# Altium schematic symbol library kmilo17pet-TI_LDO_0_350.SchLib: 1649 symbols (part 14 of 66)
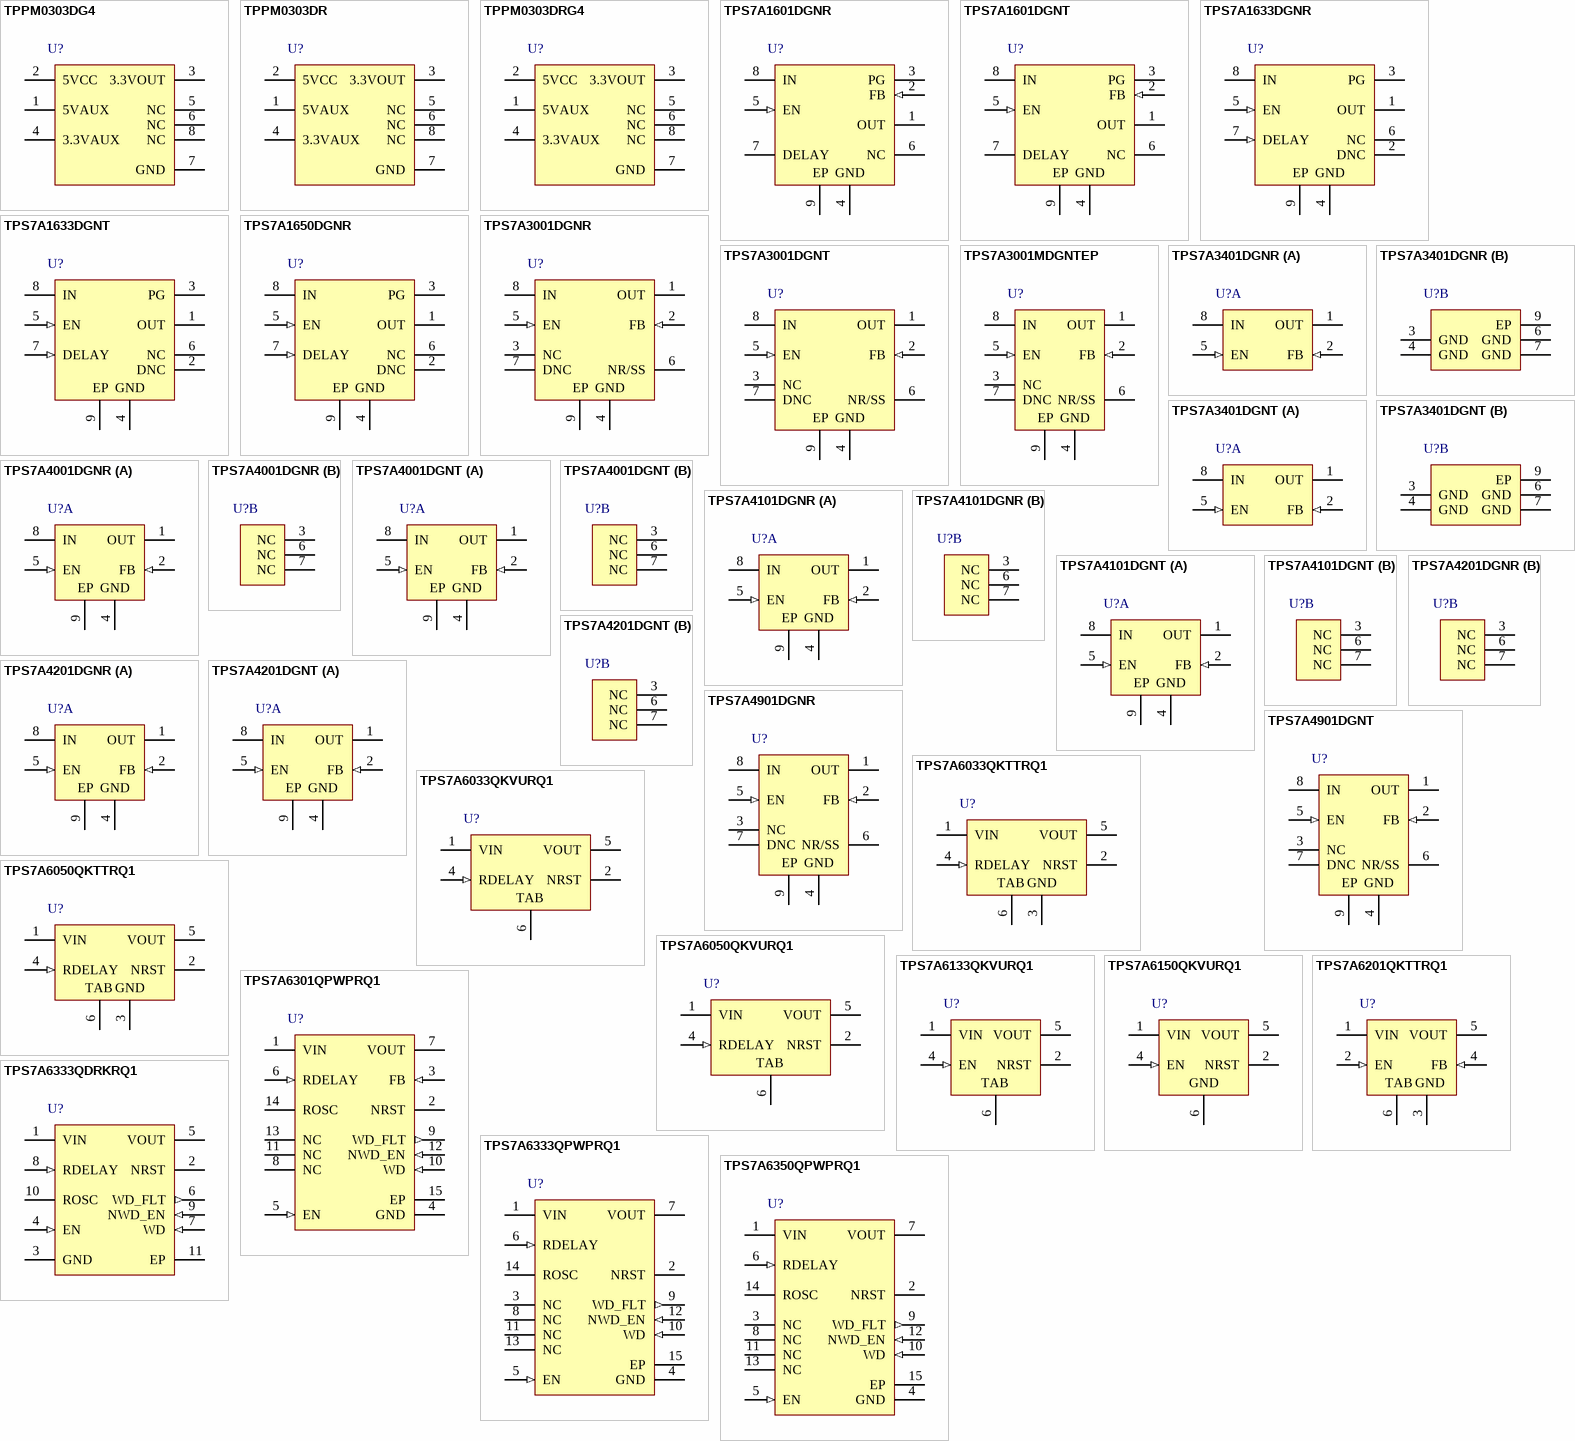
[diagram p55: symbols TPPM0303DG4 to TPS7A6350QPWPRQ1]

## TPS7A6333QPWPRQ1
designator U?
Single Output Automotive LDO, 200 mA, Fixed 3.3 V Output, 4 to 40 V Input, with Ultra-Low IQ, 14-pin HTSSOP (PWP), -40 to 125 degC, Green (RoHS & no Sb/Br); Manufacturer: Texas Instruments; PartNumber: TPS7A6333QPWPRQ1; Accuracy(%): 2; Fixed Output Options(V): 3.3; Iout(Max)(A): 0.2; Iq(Typ)(mA): 0.02; Power Good: TRUE; SubFamily: Single Channel LDO; Vdo(Typ)(mV): 300; Vin(Max)(V): 40; Vin(Min)(V): 4; DatasheetVersion: SLVSAB1D; PackageVersion: 4073225-2/I; PackageReference: PWP14-1830X2055TP; PackageDescription: 14-Pin Plastic Small Outline, Body 5 x 4.4 mm, Pitch 0.65 mm; Supplier 1: Digi-Key; Supplier Part Number 1: 296-30097-2-ND; Supplier 2: Digi-Key; Supplier Part Number 2: 296-30097-1-ND; Supplier 3: Digi-Key; Supplier Part Number 3: 296-30097-6-ND; Supplier 4: Mouser; Supplier Part Number 4: 595-TPS7A6333QPWPRQ1; Eco-Plan: Green (RoHS & no Sb/Br); Vout Adj(Max)(V): 3.3; Vout Adj(Min)(V): 3.3; Mounting Technology: Surface Mount; Code_JEDEC: MO-153; ComponentLink1Description: Manufacturer URL; ComponentLink1URL: http://www.ti.com/; ComponentLink2Description: Datasheet; ComponentLink2URL: http://www.ti.com/general/docs/lit/getliterature.tsp?genericPartNumber=TPS7A6333-Q1&fileType=pdf; ComponentLink3Description: Package Specification; ComponentLink3URL: http://www.ti.com/litv/pdf/mpds373
footprint TI-PWP14-1830X2055TP_N (SOP, 14-Leads, Body 5x4.4mm, Pitch 0.65mm, Thermal Pad 1.830X2.055mm, IPC Medium Density)
footprint TI-PWP14-1830X2055TP_L (SOP, 14-Leads, Body 5x4.4mm, Pitch 0.65mm, Thermal Pad 1.830X2.055mm, IPC High Density)
footprint TI-PWP14-1830X2055TP_M (SOP, 14-Leads, Body 5x4.4mm, Pitch 0.65mm, Thermal Pad 1.830X2.055mm, IPC Low Density)
pins: 1 VIN (power) "Input voltage pin: The unregulated input voltage is supplied to this pin. A bypass capacitor connected between the VIN pin and GND pin dampens line transients on the input.", 2 NRST (oc) "Reset pin: This is an open-drain reset output pin with an external pullup resistor connected to the VOUT pin.", 3 NC "Not connected", 4 GND (power) "Ground pin: This is signal ground pin of the IC.", 5 EN (in) "Chip enable pin: This is a high-voltage-tolerant input pin with an internal pulldown. A high input to this pin activates the device and turns the regulator ON. Connect this input to the VIN terminal for self-bias (See Datasheet)", 6 RDELAY (in) "Reset delay timer pin: This pin programs the reset delay timer using an external capacitor (CDLY) to ground.", 7 VOUT (power) "Regulated output voltage pin: This is a regulated voltage output (VOUT = 3.3 V or 5 V or a programmed value) pin with a limitation on maximum output current. For devices with adjustable output voltage (TPS7A6x01-Q1), (See Datasheet)", 8 NC "Not connected", 9 WD_FLT (out) "Watchdog fault pin (for TPS7A63xx-Q1 only): This is an active-low fault output pin with an external pullup resistor connected to the VOUT pin.", 10 WD (in) "Watchdog service pin: This is an input pin to provide a service signal to the watchdog.", 11 NC "Not connected", 12 NWD_EN (in) "Watchdog enable pin: A high input to this pin disables the watchdog, and vice versa. This is an active-low input pin with an internal pulldown. Leaving this pin is unconnected and floating keeps the watchdog enabled. An (See Datasheet)", 13 NC "Not connected", 14 ROSC "ROscillator pin: This pin programs the internal oscillator frequency (and hence the duration of the watchdog window) by connecting an external resistor to ground.", 15 EP (power) "Exposed heat sink"

## TPS7A6350QPWPRQ1
designator U?
Single Output Automotive LDO, 200 mA, Fixed 5 V Output, 4 to 40 V Input, with Ultra-Low IQ, 14-pin HTSSOP (PWP), -40 to 125 degC, Green (RoHS & no Sb/Br); Manufacturer: Texas Instruments; PartNumber: TPS7A6350QPWPRQ1; Accuracy(%): 2; Fixed Output Options(V): 5; Iout(Max)(A): 0.2; Iq(Typ)(mA): 0.02; Power Good: TRUE; SubFamily: Single Channel LDO; Vdo(Typ)(mV): 300; Vin(Max)(V): 40; Vin(Min)(V): 4; DatasheetVersion: SLVSAB1D; PackageVersion: 4073225-2/I; PackageReference: PWP14-1830X2055TP; PackageDescription: 14-Pin Plastic Small Outline, Body 5 x 4.4 mm, Pitch 0.65 mm; Supplier 1: Digi-Key; Supplier Part Number 1: 296-29708-2-ND; Supplier 2: Digi-Key; Supplier Part Number 2: 296-29708-1-ND; Supplier 3: Digi-Key; Supplier Part Number 3: 296-29708-6-ND; Supplier 4: Mouser; Supplier Part Number 4: 595-TPS7A6350QPWPRQ1; Eco-Plan: Green (RoHS & no Sb/Br); Vout Adj(Max)(V): 5; Vout Adj(Min)(V): 5; Mounting Technology: Surface Mount; Code_JEDEC: MO-153; ComponentLink1Description: Manufacturer URL; ComponentLink1URL: http://www.ti.com/; ComponentLink2Description: Datasheet; ComponentLink2URL: http://www.ti.com/general/docs/lit/getliterature.tsp?genericPartNumber=TPS7A6350-Q1&fileType=pdf; ComponentLink3Description: Package Specification; ComponentLink3URL: http://www.ti.com/litv/pdf/mpds373
footprint TI-PWP14-1830X2055TP_N (SOP, 14-Leads, Body 5x4.4mm, Pitch 0.65mm, Thermal Pad 1.830X2.055mm, IPC Medium Density)
footprint TI-PWP14-1830X2055TP_L (SOP, 14-Leads, Body 5x4.4mm, Pitch 0.65mm, Thermal Pad 1.830X2.055mm, IPC High Density)
footprint TI-PWP14-1830X2055TP_M (SOP, 14-Leads, Body 5x4.4mm, Pitch 0.65mm, Thermal Pad 1.830X2.055mm, IPC Low Density)
pins: 1 VIN (power) "Input voltage pin: The unregulated input voltage is supplied to this pin. A bypass capacitor connected between the VIN pin and GND pin dampens line transients on the input.", 2 NRST (oc) "Reset pin: This is an open-drain reset output pin with an external pullup resistor connected to the VOUT pin.", 3 NC "Not connected", 4 GND (power) "Ground pin: This is signal ground pin of the IC.", 5 EN (in) "Chip enable pin: This is a high-voltage-tolerant input pin with an internal pulldown. A high input to this pin activates the device and turns the regulator ON. Connect this input to the VIN terminal for self-bias (See Datasheet)", 6 RDELAY (in) "Reset delay timer pin: This pin programs the reset delay timer using an external capacitor (CDLY) to ground.", 7 VOUT (power) "Regulated output voltage pin: This is a regulated voltage output (VOUT = 3.3 V or 5 V or a programmed value) pin with a limitation on maximum output current. For devices with adjustable output voltage (TPS7A6x01-Q1), (See Datasheet)", 8 NC "Not connected", 9 WD_FLT (out) "Watchdog fault pin (for TPS7A63xx-Q1 only): This is an active-low fault output pin with an external pullup resistor connected to the VOUT pin.", 10 WD (in) "Watchdog service pin: This is an input pin to provide a service signal to the watchdog.", 11 NC "Not connected", 12 NWD_EN (in) "Watchdog enable pin: A high input to this pin disables the watchdog, and vice versa. This is an active-low input pin with an internal pulldown. Leaving this pin is unconnected and floating keeps the watchdog enabled. An (See Datasheet)", 13 NC "Not connected", 14 ROSC "ROscillator pin: This pin programs the internal oscillator frequency (and hence the duration of the watchdog window) by connecting an external resistor to ground.", 15 EP (power) "Exposed heat sink"

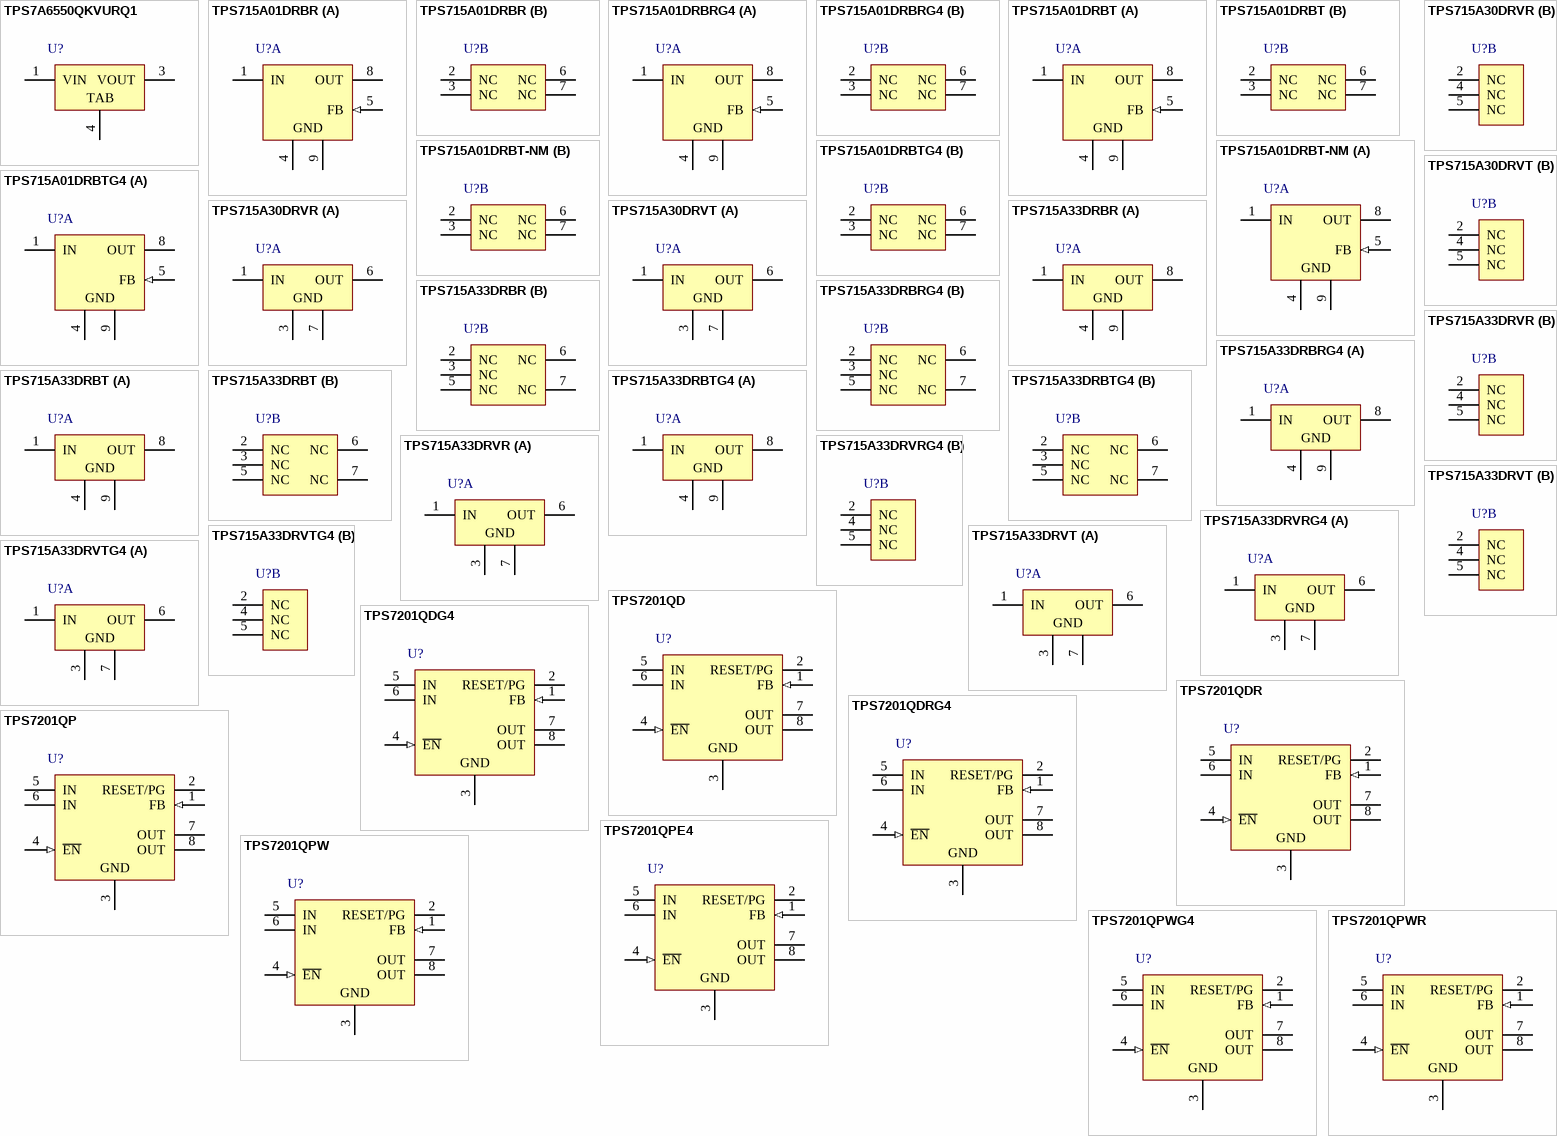
[diagram p9: symbols TPS7A6550QKVURQ1 to TPS7201QPWR]

## TPS7A6550QKVURQ1
designator U?
Single Output Automotive LDO, 300 mA, Fixed 5 V Output, 4 to 40 V Input, 3-pin PFM (KVU), -40 to 125 degC, Green (RoHS & no Sb/Br); Manufacturer: Texas Instruments; PartNumber: TPS7A6550QKVURQ1; Accuracy(%): 2; Fixed Output Options(V): 5; Iout(Max)(A): 0.3; Iq(Typ)(mA): 0.02; SubFamily: Single Channel LDO; Vdo(Typ)(mV): 300; Vin(Max)(V): 40; Vin(Min)(V): 4; DatasheetVersion: SLVSA98C; PackageVersion: 4205521-2/D; PackageReference: KVU3; PackageDescription: 3-Pin Plastic Flange Mount, Body 6.1 x 6.6 mm, Pitch 2.29 mm; Supplier 1: Digi-Key; Supplier Part Number 1: 296-28461-2-ND; Supplier 2: Digi-Key; Supplier Part Number 2: 296-28461-1-ND; Supplier 3: Digi-Key; Supplier Part Number 3: 296-28461-6-ND; Supplier 4: Newark; Supplier Part Number 4: 40T5460; Supplier 5: Mouser; Supplier Part Number 5: 595-TPS7A6550QKVURQ1; Eco-Plan: Green (RoHS & no Sb/Br); Vout Adj(Max)(V): 5; Vout Adj(Min)(V): 5; Mounting Technology: Surface Mount; Code_JEDEC: TO-252; ComponentLink1Description: Manufacturer URL; ComponentLink1URL: http://www.ti.com/; ComponentLink2Description: Datasheet; ComponentLink2URL: http://www.ti.com/general/docs/lit/getliterature.tsp?genericPartNumber=TPS7A6550-Q1&fileType=pdf; ComponentLink3Description: Package Specification; ComponentLink3URL: http://www.ti.com/litv/pdf/mpsf018c
footprint TI-KVU3_N (DPAK, 3-Leads, Body 6.6x6.1mm, Pitch 2.29mm, IPC Medium Density)
footprint TI-KVU3_L (DPAK, 3-Leads, Body 6.6x6.1mm, Pitch 2.29mm, IPC High Density)
footprint TI-KVU3_M (DPAK, 3-Leads, Body 6.6x6.1mm, Pitch 2.29mm, IPC Low Density)
pins: 1 VIN (power) "Input voltage pin: The unregulated input voltage is supplied to this pin. A bypass capacitor is connected between VIN pin and GND pin to dampen input line transients.", 3 VOUT (power) "Regulated output voltage pin: This is a regulated voltage output (VOUT= 3.3 V or 5 V, as applicable) pin with a limitation on maximum output current. In order to achieve stable operation and prevent oscillation, an external (See Datasheet)", 4 TAB (power)

## TPS715A01DRBR
designator U?
Single Output LDO, 80 mA, Adjustable 1.2 to 15 V Output, 2.5 to 24 V Input, with Low IQ, 8-pin SON (DRB), -40 to 125 degC, Green (RoHS & no Sb/Br); Manufacturer: Texas Instruments; PartNumber: TPS715A01DRBR; Accuracy(%): 4; Iout(Max)(A): 0.08; Iq(Typ)(mA): 0.003; Rating: Catalog; SubFamily: Single Channel LDO; Vdo(Typ)(mV): 670; Vin(Max)(V): 24; Vin(Min)(V): 2.5; Vout Adj(Max)(V): 15; Vout Adj(Min)(V): 1.2; DatasheetVersion: SBVS047F; PackageVersion: 4203482-2/K; PackageReference: DRB8-1750X1500TP; PackageDescription: 8-Pin Plastic Small Outline, Body 3 x 3 mm, Pitch 0.65 mm; Supplier 1: Digi-Key; Supplier Part Number 1: TPS715A01DRBR-ND; Supplier 2: Newark; Supplier Part Number 2: 73J8402; Supplier 3: Mouser; Supplier Part Number 3: 595-TPS715A01DRBR; Eco-Plan: Green (RoHS & no Sb/Br); Mounting Technology: Surface Mount; ComponentLink1Description: Manufacturer URL; ComponentLink1URL: http://www.ti.com/; ComponentLink2Description: Datasheet; ComponentLink2URL: http://www.ti.com/general/docs/lit/getliterature.tsp?genericPartNumber=TPS715A01&fileType=pdf; ComponentLink3Description: Package Specification; ComponentLink3URL: http://www.ti.com/litv/pdf/mpds118h; ComponentLink4Description: URL Link1; ComponentLink4URL: Samples URL:http://www.ti.com/product/tps715a01#samples
footprint TI-DRB8-1750X1500TP_V (SON, 8-Leads, Body 3x3mm, Pitch 0.65mm, Thermal Pad 1.50 x 3.8mm)
part A pins: 1 IN (power) "Unregulated input voltage.", 4 GND (power) "Ground.", 5 FB (in) "This terminal is used to set the output voltage.", 8 OUT (power) "Regulated output voltage, any output capacitor >= 0.47uF can be used for stability.", 9 GND (power) "Ground."
part B pins: 2 NC "No connection. May be left open or tied to Ground for improved thermal performance.", 3 NC "No connection. May be left open or tied to Ground for improved thermal performance.", 6 NC "No connection. May be left open or tied to Ground for improved thermal performance.", 7 NC "No connection. May be left open or tied to Ground for improved thermal performance."

## TPS715A01DRBRG4
designator U?
Single Output LDO, 80 mA, Adjustable 1.2 to 15 V Output, 2.5 to 24 V Input, with Low IQ, 8-pin SON (DRB), -40 to 125 degC, Green (RoHS & no Sb/Br); Manufacturer: Texas Instruments; PartNumber: TPS715A01DRBRG4; Accuracy(%): 4; Iout(Max)(A): 0.08; Iq(Typ)(mA): 0.003; Rating: Catalog; SubFamily: Single Channel LDO; Vdo(Typ)(mV): 670; Vin(Max)(V): 24; Vin(Min)(V): 2.5; Vout Adj(Max)(V): 15; Vout Adj(Min)(V): 1.2; DatasheetVersion: SBVS047F; PackageVersion: 4203482-2/K; PackageReference: DRB8-1750X1500TP; PackageDescription: 8-Pin Plastic Small Outline, Body 3 x 3 mm, Pitch 0.65 mm; Supplier 1: Digi-Key; Supplier Part Number 1: TPS715A01DRBRG4-ND; Supplier 2: Mouser; Supplier Part Number 2: 595-TPS715A01DRBRG4; Eco-Plan: Green (RoHS & no Sb/Br); Mounting Technology: Surface Mount; ComponentLink1Description: Manufacturer URL; ComponentLink1URL: http://www.ti.com/; ComponentLink2Description: Datasheet; ComponentLink2URL: http://www.ti.com/general/docs/lit/getliterature.tsp?genericPartNumber=TPS715A01&fileType=pdf; ComponentLink3Description: Package Specification; ComponentLink3URL: http://www.ti.com/litv/pdf/mpds118h; ComponentLink4Description: URL Link1; ComponentLink4URL: Samples URL:http://www.ti.com/product/tps715a01#samples
footprint TI-DRB8-1750X1500TP_V (SON, 8-Leads, Body 3x3mm, Pitch 0.65mm, Thermal Pad 1.50 x 3.8mm)
part A pins: 1 IN (power) "Unregulated input voltage.", 4 GND (power) "Ground.", 5 FB (in) "This terminal is used to set the output voltage.", 8 OUT (power) "Regulated output voltage, any output capacitor >= 0.47uF can be used for stability.", 9 GND (power) "Ground."
part B pins: 2 NC "No connection. May be left open or tied to Ground for improved thermal performance.", 3 NC "No connection. May be left open or tied to Ground for improved thermal performance.", 6 NC "No connection. May be left open or tied to Ground for improved thermal performance.", 7 NC "No connection. May be left open or tied to Ground for improved thermal performance."

## TPS715A01DRBT
designator U?
Single Output LDO, 80 mA, Adjustable 1.2 to 15 V Output, 2.5 to 24 V Input, with Low IQ, 8-pin SON (DRB), -40 to 125 degC, Green (RoHS & no Sb/Br); Manufacturer: Texas Instruments; PartNumber: TPS715A01DRBT; Accuracy(%): 4; Iout(Max)(A): 0.08; Iq(Typ)(mA): 0.003; Rating: Catalog; SubFamily: Single Channel LDO; Vdo(Typ)(mV): 670; Vin(Max)(V): 24; Vin(Min)(V): 2.5; Vout Adj(Max)(V): 15; Vout Adj(Min)(V): 1.2; DatasheetVersion: SBVS047F; PackageVersion: 4203482-2/K; PackageReference: DRB8-1750X1500TP; PackageDescription: 8-Pin Plastic Small Outline, Body 3 x 3 mm, Pitch 0.65 mm; Supplier 1: Digi-Key; Supplier Part Number 1: 296-17614-2-ND; Supplier 2: Digi-Key; Supplier Part Number 2: 296-17614-1-ND; Supplier 3: Digi-Key; Supplier Part Number 3: 296-17614-6-ND; Supplier 4: Farnell; Supplier Part Number 4: 1135384; Supplier 5: Farnell; Supplier Part Number 5: 1135384RL; Supplier 6: Newark; Supplier Part Number 6: 73J8403; Supplier 7: Mouser; Supplier Part Number 7: 595-TPS715A01DRBT; Eco-Plan: Green (RoHS & no Sb/Br); Mounting Technology: Surface Mount; ComponentLink1Description: Manufacturer URL; ComponentLink1URL: http://www.ti.com/; ComponentLink2Description: Datasheet; ComponentLink2URL: http://www.ti.com/general/docs/lit/getliterature.tsp?genericPartNumber=TPS715A01&fileType=pdf; ComponentLink3Description: Package Specification; ComponentLink3URL: http://www.ti.com/litv/pdf/mpds118h; ComponentLink4Description: URL Link1; ComponentLink4URL: Samples URL:http://www.ti.com/product/tps715a01#samples
footprint TI-DRB8-1750X1500TP_V (SON, 8-Leads, Body 3x3mm, Pitch 0.65mm, Thermal Pad 1.50 x 3.8mm)
part A pins: 1 IN (power) "Unregulated input voltage.", 4 GND (power) "Ground.", 5 FB (in) "This terminal is used to set the output voltage.", 8 OUT (power) "Regulated output voltage, any output capacitor >= 0.47uF can be used for stability.", 9 GND (power) "Ground."
part B pins: 2 NC "No connection. May be left open or tied to Ground for improved thermal performance.", 3 NC "No connection. May be left open or tied to Ground for improved thermal performance.", 6 NC "No connection. May be left open or tied to Ground for improved thermal performance.", 7 NC "No connection. May be left open or tied to Ground for improved thermal performance."

## TPS715A01DRBT-NM
designator U?
Single Output LDO, 80 mA, Adjustable 1.2 to 15 V Output, 2.5 to 24 V Input, with Low IQ, 8-pin SON (DRB), -40 to 125 degC, Green (RoHS & no Sb/Br); Manufacturer: Texas Instruments; PartNumber: TPS715A01DRBT-NM; Accuracy(%): 4; Iout(Max)(A): 0.08; Iq(Typ)(mA): 0.003; Rating: Catalog; SubFamily: Single Channel LDO; Vdo(Typ)(mV): 670; Vin(Max)(V): 24; Vin(Min)(V): 2.5; Vout Adj(Max)(V): 15; Vout Adj(Min)(V): 1.2; DatasheetVersion: SBVS047F; PackageVersion: 4203482-2/K; PackageReference: DRB8-1750X1500TP; PackageDescription: 8-Pin Plastic Small Outline, Body 3 x 3 mm, Pitch 0.65 mm; Supplier 1: Digi-Key; Supplier Part Number 1: 296-29498-2-ND; Supplier 2: Digi-Key; Supplier Part Number 2: 296-29498-1-ND; Supplier 3: Digi-Key; Supplier Part Number 3: 296-29498-6-ND; Supplier 4: Farnell; Supplier Part Number 4: 2064244; Supplier 5: Mouser; Supplier Part Number 5: 595-TPS715A01DRBT-NM; Eco-Plan: Green (RoHS & no Sb/Br); Mounting Technology: Surface Mount; ComponentLink1Description: Manufacturer URL; ComponentLink1URL: http://www.ti.com/; ComponentLink2Description: Datasheet; ComponentLink2URL: http://www.ti.com/general/docs/lit/getliterature.tsp?genericPartNumber=TPS715A01&fileType=pdf; ComponentLink3Description: Package Specification; ComponentLink3URL: http://www.ti.com/litv/pdf/mpds118h; ComponentLink4Description: URL Link1; ComponentLink4URL: Samples URL:http://www.ti.com/product/tps715a01#samples
footprint TI-DRB8-1750X1500TP_V (SON, 8-Leads, Body 3x3mm, Pitch 0.65mm, Thermal Pad 1.50 x 3.8mm)
part A pins: 1 IN (power) "Unregulated input voltage.", 4 GND (power) "Ground.", 5 FB (in) "This terminal is used to set the output voltage.", 8 OUT (power) "Regulated output voltage, any output capacitor >= 0.47uF can be used for stability.", 9 GND (power) "Ground."
part B pins: 2 NC "No connection. May be left open or tied to Ground for improved thermal performance.", 3 NC "No connection. May be left open or tied to Ground for improved thermal performance.", 6 NC "No connection. May be left open or tied to Ground for improved thermal performance.", 7 NC "No connection. May be left open or tied to Ground for improved thermal performance."

## TPS715A01DRBTG4
designator U?
Single Output LDO, 80 mA, Adjustable 1.2 to 15 V Output, 2.5 to 24 V Input, with Low IQ, 8-pin SON (DRB), -40 to 125 degC, Green (RoHS & no Sb/Br); Manufacturer: Texas Instruments; PartNumber: TPS715A01DRBTG4; Accuracy(%): 4; Iout(Max)(A): 0.08; Iq(Typ)(mA): 0.003; Rating: Catalog; SubFamily: Single Channel LDO; Vdo(Typ)(mV): 670; Vin(Max)(V): 24; Vin(Min)(V): 2.5; Vout Adj(Max)(V): 15; Vout Adj(Min)(V): 1.2; DatasheetVersion: SBVS047F; PackageVersion: 4203482-2/K; PackageReference: DRB8-1750X1500TP; PackageDescription: 8-Pin Plastic Small Outline, Body 3 x 3 mm, Pitch 0.65 mm; Supplier 1: Digi-Key; Supplier Part Number 1: TPS715A01DRBTG4-ND; Supplier 2: Newark; Supplier Part Number 2: 33K7682; Supplier 3: Mouser; Supplier Part Number 3: 595-TPS715A01DRBTG4; Eco-Plan: Green (RoHS & no Sb/Br); Mounting Technology: Surface Mount; ComponentLink1Description: Manufacturer URL; ComponentLink1URL: http://www.ti.com/; ComponentLink2Description: Datasheet; ComponentLink2URL: http://www.ti.com/general/docs/lit/getliterature.tsp?genericPartNumber=TPS715A01&fileType=pdf; ComponentLink3Description: Package Specification; ComponentLink3URL: http://www.ti.com/litv/pdf/mpds118h; ComponentLink4Description: URL Link1; ComponentLink4URL: Samples URL:http://www.ti.com/product/tps715a01#samples
footprint TI-DRB8-1750X1500TP_V (SON, 8-Leads, Body 3x3mm, Pitch 0.65mm, Thermal Pad 1.50 x 3.8mm)
part A pins: 1 IN (power) "Unregulated input voltage.", 4 GND (power) "Ground.", 5 FB (in) "This terminal is used to set the output voltage.", 8 OUT (power) "Regulated output voltage, any output capacitor >= 0.47uF can be used for stability.", 9 GND (power) "Ground."
part B pins: 2 NC "No connection. May be left open or tied to Ground for improved thermal performance.", 3 NC "No connection. May be left open or tied to Ground for improved thermal performance.", 6 NC "No connection. May be left open or tied to Ground for improved thermal performance.", 7 NC "No connection. May be left open or tied to Ground for improved thermal performance."

## TPS715A30DRVR
designator U?
Single Output High Input-Voltage LDO, 80 mA, Fixed 3 V Output, 2.5 to 24 V Input, 6-pin SON (DRV), -40 to 85 degC, Green (RoHS & no Sb/Br); Manufacturer: Texas Instruments; PartNumber: TPS715A30DRVR; Accuracy(%): 4; Fixed Output Options(V): 3; Iout(Max)(A): 0.08; Iq(Typ)(mA): 0.003; Rating: Catalog; SubFamily: Single Channel LDO; Vdo(Typ)(mV): 670; Vin(Max)(V): 24; Vin(Min)(V): 2.5; DatasheetVersion: SBVS047F; PackageVersion: 4206925/E; PackageReference: DRV6-1600X1000TP; PackageDescription: 6-Pin Plastic Small Outline No-Lead, Body 2 x 2 mm, Pitch 0.65 mm; Supplier 1: Digi-Key; Supplier Part Number 1: 296-30219-2-ND; Supplier 2: Digi-Key; Supplier Part Number 2: 296-30219-1-ND; Supplier 3: Digi-Key; Supplier Part Number 3: 296-30219-6-ND; Supplier 4: Mouser; Supplier Part Number 4: 595-TPS715A30DRVR; Eco-Plan: Green (RoHS & no Sb/Br); Vout Adj(Max)(V): 3; Vout Adj(Min)(V): 3; Mounting Technology: Surface Mount; ComponentLink1Description: Manufacturer URL; ComponentLink1URL: http://www.ti.com/; ComponentLink2Description: Datasheet; ComponentLink2URL: http://www.ti.com/general/docs/lit/getliterature.tsp?genericPartNumber=TPS715A30&fileType=pdf; ComponentLink3Description: Package Specification; ComponentLink3URL: http://www.ti.com/litv/pdf/mpds216d; ComponentLink4Description: URL Link1; ComponentLink4URL: Samples URL:http://www.ti.com/product/tps715a30#samples
footprint TI-DRV6-1600X1000TP_V (SON, 6-Leads, Body 2x2mm, Pitch 0.65mm, Thermal Pad 1X1.6mm)
part A pins: 1 IN (power) "Unregulated input voltage.", 3 GND (power) "Ground", 6 OUT (power) "Regulated output voltage, any output capacitor >= 0.47uF can be used for stability.", 7 GND (power) "Ground"
part B pins: 2 NC "No connection. May be left open or tied to ground for improved thermal performance.", 4 NC "No connection. May be left open or tied to Ground for improved thermal performance.", 5 NC "No connection. May be left open or tied to ground for improved thermal performance."

## TPS715A30DRVT
designator U?
Single Output High Input-Voltage LDO, 80 mA, Fixed 3 V Output, 2.5 to 24 V Input, 6-pin SON (DRV), -40 to 85 degC, Green (RoHS & no Sb/Br); Manufacturer: Texas Instruments; PartNumber: TPS715A30DRVT; Accuracy(%): 4; Fixed Output Options(V): 3; Iout(Max)(A): 0.08; Iq(Typ)(mA): 0.003; Rating: Catalog; SubFamily: Single Channel LDO; Vdo(Typ)(mV): 670; Vin(Max)(V): 24; Vin(Min)(V): 2.5; DatasheetVersion: SBVS047F; PackageVersion: 4206925/E; PackageReference: DRV6-1600X1000TP; PackageDescription: 6-Pin Plastic Small Outline No-Lead, Body 2 x 2 mm, Pitch 0.65 mm; Supplier 1: Digi-Key; Supplier Part Number 1: 296-30261-2-ND; Supplier 2: Digi-Key; Supplier Part Number 2: 296-30261-1-ND; Supplier 3: Digi-Key; Supplier Part Number 3: 296-30261-6-ND; Supplier 4: Farnell; Supplier Part Number 4: 2095835; Supplier 5: Mouser; Supplier Part Number 5: 595-TPS715A30DRVT; Eco-Plan: Green (RoHS & no Sb/Br); Vout Adj(Max)(V): 3; Vout Adj(Min)(V): 3; Mounting Technology: Surface Mount; ComponentLink1Description: Manufacturer URL; ComponentLink1URL: http://www.ti.com/; ComponentLink2Description: Datasheet; ComponentLink2URL: http://www.ti.com/general/docs/lit/getliterature.tsp?genericPartNumber=TPS715A30&fileType=pdf; ComponentLink3Description: Package Specification; ComponentLink3URL: http://www.ti.com/litv/pdf/mpds216d; ComponentLink4Description: URL Link1; ComponentLink4URL: Samples URL:http://www.ti.com/product/tps715a30#samples
footprint TI-DRV6-1600X1000TP_V (SON, 6-Leads, Body 2x2mm, Pitch 0.65mm, Thermal Pad 1X1.6mm)
part A pins: 1 IN (power) "Unregulated input voltage.", 3 GND (power) "Ground", 6 OUT (power) "Regulated output voltage, any output capacitor >= 0.47uF can be used for stability.", 7 GND (power) "Ground"
part B pins: 2 NC "No connection. May be left open or tied to ground for improved thermal performance.", 4 NC "No connection. May be left open or tied to Ground for improved thermal performance.", 5 NC "No connection. May be left open or tied to ground for improved thermal performance."

## TPS715A33DRBR
designator U?
Single Output LDO, 80 mA, Fixed 3.3 V Output, 2.5 to 24 V Input, with Low IQ, 8-pin SON (DRB), -40 to 125 degC, Green (RoHS & no Sb/Br); Manufacturer: Texas Instruments; PartNumber: TPS715A33DRBR; Accuracy(%): 4; Fixed Output Options(V): 3.3; Iout(Max)(A): 0.08; Iq(Typ)(mA): 0.003; Rating: Catalog; SubFamily: Single Channel LDO; Vdo(Typ)(mV): 670; Vin(Max)(V): 24; Vin(Min)(V): 2.5; DatasheetVersion: SBVS047F; PackageVersion: 4203482-2/K; PackageReference: DRB8-1750X1500TP; PackageDescription: 8-Pin Plastic Small Outline, Body 3 x 3 mm, Pitch 0.65 mm; Supplier 1: Digi-Key; Supplier Part Number 1: TPS715A33DRBR-ND; Supplier 2: Newark; Supplier Part Number 2: 73J8404; Supplier 3: Mouser; Supplier Part Number 3: 595-TPS715A33DRBR; Eco-Plan: Green (RoHS & no Sb/Br); Vout Adj(Max)(V): 3.3; Vout Adj(Min)(V): 3.3; Mounting Technology: Surface Mount; ComponentLink1Description: Manufacturer URL; ComponentLink1URL: http://www.ti.com/; ComponentLink2Description: Datasheet; ComponentLink2URL: http://www.ti.com/general/docs/lit/getliterature.tsp?genericPartNumber=TPS715A33&fileType=pdf; ComponentLink3Description: Package Specification; ComponentLink3URL: http://www.ti.com/litv/pdf/mpds118h; ComponentLink4Description: URL Link1; ComponentLink4URL: Samples URL:http://www.ti.com/product/tps715a33#samples
footprint TI-DRB8-1750X1500TP_V (SON, 8-Leads, Body 3x3mm, Pitch 0.65mm, Thermal Pad 1.50 x 3.8mm)
part A pins: 1 IN (power) "Unregulated input voltage.", 4 GND (power) "Ground", 8 OUT (power) "Regulated output voltage, any output capacitor >= 0.47uF can be used for stability.", 9 GND (power) "Ground"
part B pins: 2 NC "No connection. May be left open or tied to Ground for improved thermal performance.", 3 NC "No connection. May be left open or tied to Ground for improved thermal performance.", 5 NC "No connection. May be left open or tied to Ground for improved thermal performance.", 6 NC "No connection. May be left open or tied to Ground for improved thermal performance.", 7 NC "No connection. May be left open or tied to Ground for improved thermal performance."

## TPS715A33DRBRG4
designator U?
Single Output LDO, 80 mA, Fixed 3.3 V Output, 2.5 to 24 V Input, with Low IQ, 8-pin SON (DRB), -40 to 125 degC, Green (RoHS & no Sb/Br); Manufacturer: Texas Instruments; PartNumber: TPS715A33DRBRG4; Accuracy(%): 4; Fixed Output Options(V): 3.3; Iout(Max)(A): 0.08; Iq(Typ)(mA): 0.003; Rating: Catalog; SubFamily: Single Channel LDO; Vdo(Typ)(mV): 670; Vin(Max)(V): 24; Vin(Min)(V): 2.5; DatasheetVersion: SBVS047F; PackageVersion: 4203482-2/K; PackageReference: DRB8-1750X1500TP; PackageDescription: 8-Pin Plastic Small Outline, Body 3 x 3 mm, Pitch 0.65 mm; Supplier 1: Digi-Key; Supplier Part Number 1: TPS715A33DRBRG4-ND; Supplier 2: Mouser; Supplier Part Number 2: 595-TPS715A33DRBRG4; Eco-Plan: Green (RoHS & no Sb/Br); Vout Adj(Max)(V): 3.3; Vout Adj(Min)(V): 3.3; Mounting Technology: Surface Mount; ComponentLink1Description: Manufacturer URL; ComponentLink1URL: http://www.ti.com/; ComponentLink2Description: Datasheet; ComponentLink2URL: http://www.ti.com/general/docs/lit/getliterature.tsp?genericPartNumber=TPS715A33&fileType=pdf; ComponentLink3Description: Package Specification; ComponentLink3URL: http://www.ti.com/litv/pdf/mpds118h; ComponentLink4Description: URL Link1; ComponentLink4URL: Samples URL:http://www.ti.com/product/tps715a33#samples
footprint TI-DRB8-1750X1500TP_V (SON, 8-Leads, Body 3x3mm, Pitch 0.65mm, Thermal Pad 1.50 x 3.8mm)
part A pins: 1 IN (power) "Unregulated input voltage.", 4 GND (power) "Ground", 8 OUT (power) "Regulated output voltage, any output capacitor >= 0.47uF can be used for stability.", 9 GND (power) "Ground"
part B pins: 2 NC "No connection. May be left open or tied to Ground for improved thermal performance.", 3 NC "No connection. May be left open or tied to Ground for improved thermal performance.", 5 NC "No connection. May be left open or tied to Ground for improved thermal performance.", 6 NC "No connection. May be left open or tied to Ground for improved thermal performance.", 7 NC "No connection. May be left open or tied to Ground for improved thermal performance."

## TPS715A33DRBT
designator U?
Single Output LDO, 80 mA, Fixed 3.3 V Output, 2.5 to 24 V Input, with Low IQ, 8-pin SON (DRB), -40 to 125 degC, Green (RoHS & no Sb/Br); Manufacturer: Texas Instruments; PartNumber: TPS715A33DRBT; Accuracy(%): 4; Fixed Output Options(V): 3.3; Iout(Max)(A): 0.08; Iq(Typ)(mA): 0.003; Rating: Catalog; SubFamily: Single Channel LDO; Vdo(Typ)(mV): 670; Vin(Max)(V): 24; Vin(Min)(V): 2.5; DatasheetVersion: SBVS047F; PackageVersion: 4203482-2/K; PackageReference: DRB8-1750X1500TP; PackageDescription: 8-Pin Plastic Small Outline, Body 3 x 3 mm, Pitch 0.65 mm; Supplier 1: Digi-Key; Supplier Part Number 1: 296-17615-2-ND; Supplier 2: Digi-Key; Supplier Part Number 2: 296-17615-1-ND; Supplier 3: Digi-Key; Supplier Part Number 3: 296-17615-6-ND; Supplier 4: Farnell; Supplier Part Number 4: 1135386; Supplier 5: Farnell; Supplier Part Number 5: 1135386RL; Supplier 6: Newark; Supplier Part Number 6: 73J8405; Supplier 7: Mouser; Supplier Part Number 7: 595-TPS715A33DRBT; Eco-Plan: Green (RoHS & no Sb/Br); Vout Adj(Max)(V): 3.3; Vout Adj(Min)(V): 3.3; Mounting Technology: Surface Mount; ComponentLink1Description: Manufacturer URL; ComponentLink1URL: http://www.ti.com/; ComponentLink2Description: Datasheet; ComponentLink2URL: http://www.ti.com/general/docs/lit/getliterature.tsp?genericPartNumber=TPS715A33&fileType=pdf; ComponentLink3Description: Package Specification; ComponentLink3URL: http://www.ti.com/litv/pdf/mpds118h; ComponentLink4Description: URL Link1; ComponentLink4URL: Samples URL:http://www.ti.com/product/tps715a33#samples
footprint TI-DRB8-1750X1500TP_V (SON, 8-Leads, Body 3x3mm, Pitch 0.65mm, Thermal Pad 1.50 x 3.8mm)
part A pins: 1 IN (power) "Unregulated input voltage.", 4 GND (power) "Ground", 8 OUT (power) "Regulated output voltage, any output capacitor >= 0.47uF can be used for stability.", 9 GND (power) "Ground"
part B pins: 2 NC "No connection. May be left open or tied to Ground for improved thermal performance.", 3 NC "No connection. May be left open or tied to Ground for improved thermal performance.", 5 NC "No connection. May be left open or tied to Ground for improved thermal performance.", 6 NC "No connection. May be left open or tied to Ground for improved thermal performance.", 7 NC "No connection. May be left open or tied to Ground for improved thermal performance."

## TPS715A33DRBTG4
designator U?
Single Output LDO, 80 mA, Fixed 3.3 V Output, 2.5 to 24 V Input, with Low IQ, 8-pin SON (DRB), -40 to 125 degC, Green (RoHS & no Sb/Br); Manufacturer: Texas Instruments; PartNumber: TPS715A33DRBTG4; Accuracy(%): 4; Fixed Output Options(V): 3.3; Iout(Max)(A): 0.08; Iq(Typ)(mA): 0.003; Rating: Catalog; SubFamily: Single Channel LDO; Vdo(Typ)(mV): 670; Vin(Max)(V): 24; Vin(Min)(V): 2.5; DatasheetVersion: SBVS047F; PackageVersion: 4203482-2/K; PackageReference: DRB8-1750X1500TP; PackageDescription: 8-Pin Plastic Small Outline, Body 3 x 3 mm, Pitch 0.65 mm; Supplier 1: Digi-Key; Supplier Part Number 1: TPS715A33DRBTG4-ND; Supplier 2: Mouser; Supplier Part Number 2: 595-TPS715A33DRBTG4; Eco-Plan: Green (RoHS & no Sb/Br); Vout Adj(Max)(V): 3.3; Vout Adj(Min)(V): 3.3; Mounting Technology: Surface Mount; ComponentLink1Description: Manufacturer URL; ComponentLink1URL: http://www.ti.com/; ComponentLink2Description: Datasheet; ComponentLink2URL: http://www.ti.com/general/docs/lit/getliterature.tsp?genericPartNumber=TPS715A33&fileType=pdf; ComponentLink3Description: Package Specification; ComponentLink3URL: http://www.ti.com/litv/pdf/mpds118h; ComponentLink4Description: URL Link1; ComponentLink4URL: Samples URL:http://www.ti.com/product/tps715a33#samples
footprint TI-DRB8-1750X1500TP_V (SON, 8-Leads, Body 3x3mm, Pitch 0.65mm, Thermal Pad 1.50 x 3.8mm)
part A pins: 1 IN (power) "Unregulated input voltage.", 4 GND (power) "Ground", 8 OUT (power) "Regulated output voltage, any output capacitor >= 0.47uF can be used for stability.", 9 GND (power) "Ground"
part B pins: 2 NC "No connection. May be left open or tied to Ground for improved thermal performance.", 3 NC "No connection. May be left open or tied to Ground for improved thermal performance.", 5 NC "No connection. May be left open or tied to Ground for improved thermal performance.", 6 NC "No connection. May be left open or tied to Ground for improved thermal performance.", 7 NC "No connection. May be left open or tied to Ground for improved thermal performance."

## TPS715A33DRVR
designator U?
Single Output LDO, 80 mA, Fixed 3.3 V Output, 2.5 to 24 V Input, with Low IQ, 6-pin SON (DRV), -40 to 85 degC, Green (RoHS & no Sb/Br); Manufacturer: Texas Instruments; PartNumber: TPS715A33DRVR; Accuracy(%): 4; Fixed Output Options(V): 3.3; Iout(Max)(A): 0.08; Iq(Typ)(mA): 0.003; Rating: Catalog; SubFamily: Single Channel LDO; Vdo(Typ)(mV): 670; Vin(Max)(V): 24; Vin(Min)(V): 2.5; DatasheetVersion: SBVS047F; PackageVersion: 4206925/E; PackageReference: DRV6-1600X1000TP; PackageDescription: 6-Pin Plastic Small Outline No-Lead, Body 2 x 2 mm, Pitch 0.65 mm; Supplier 1: Digi-Key; Supplier Part Number 1: 296-22584-2-ND; Supplier 2: Digi-Key; Supplier Part Number 2: 296-22584-1-ND; Supplier 3: Digi-Key; Supplier Part Number 3: 296-22584-6-ND; Supplier 4: Newark; Supplier Part Number 4: 55M5947; Supplier 5: Mouser; Supplier Part Number 5: 595-TPS715A33DRVR; Eco-Plan: Green (RoHS & no Sb/Br); Vout Adj(Max)(V): 3.3; Vout Adj(Min)(V): 3.3; Mounting Technology: Surface Mount; ComponentLink1Description: Manufacturer URL; ComponentLink1URL: http://www.ti.com/; ComponentLink2Description: Datasheet; ComponentLink2URL: http://www.ti.com/general/docs/lit/getliterature.tsp?genericPartNumber=TPS715A33&fileType=pdf; ComponentLink3Description: Package Specification; ComponentLink3URL: http://www.ti.com/litv/pdf/mpds216d; ComponentLink4Description: URL Link1; ComponentLink4URL: Samples URL:http://www.ti.com/product/tps715a33#samples
footprint TI-DRV6-1600X1000TP_V (SON, 6-Leads, Body 2x2mm, Pitch 0.65mm, Thermal Pad 1X1.6mm)
part A pins: 1 IN (power) "Unregulated input voltage.", 3 GND (power) "Ground", 6 OUT (power) "Regulated output voltage, any output capacitor >= 0.47uF can be used for stability.", 7 GND (power) "Ground"
part B pins: 2 NC "No connection. May be left open or tied to ground for improved thermal performance.", 4 NC "No connection. May be left open or tied to Ground for improved thermal performance.", 5 NC "No connection. May be left open or tied to ground for improved thermal performance."

## TPS715A33DRVRG4
designator U?
Single Output LDO, 80 mA, Fixed 3.3 V Output, 2.5 to 24 V Input, with Low IQ, 6-pin SON (DRV), -40 to 85 degC, Green (RoHS & no Sb/Br); Manufacturer: Texas Instruments; PartNumber: TPS715A33DRVRG4; Accuracy(%): 4; Fixed Output Options(V): 3.3; Iout(Max)(A): 0.08; Iq(Typ)(mA): 0.003; Rating: Catalog; SubFamily: Single Channel LDO; Vdo(Typ)(mV): 670; Vin(Max)(V): 24; Vin(Min)(V): 2.5; DatasheetVersion: SBVS047F; PackageVersion: 4206925/E; PackageReference: DRV6-1600X1000TP; PackageDescription: 6-Pin Plastic Small Outline No-Lead, Body 2 x 2 mm, Pitch 0.65 mm; Supplier 1: Digi-Key; Supplier Part Number 1: TPS715A33DRVRG4-ND; Supplier 2: Newark; Supplier Part Number 2: 60M1803; Supplier 3: Mouser; Supplier Part Number 3: 595-TPS715A33DRVRG4; Eco-Plan: Green (RoHS & no Sb/Br); Vout Adj(Max)(V): 3.3; Vout Adj(Min)(V): 3.3; Mounting Technology: Surface Mount; ComponentLink1Description: Manufacturer URL; ComponentLink1URL: http://www.ti.com/; ComponentLink2Description: Datasheet; ComponentLink2URL: http://www.ti.com/general/docs/lit/getliterature.tsp?genericPartNumber=TPS715A33&fileType=pdf; ComponentLink3Description: Package Specification; ComponentLink3URL: http://www.ti.com/litv/pdf/mpds216d; ComponentLink4Description: URL Link1; ComponentLink4URL: Samples URL:http://www.ti.com/product/tps715a33#samples
footprint TI-DRV6-1600X1000TP_V (SON, 6-Leads, Body 2x2mm, Pitch 0.65mm, Thermal Pad 1X1.6mm)
part A pins: 1 IN (power) "Unregulated input voltage.", 3 GND (power) "Ground", 6 OUT (power) "Regulated output voltage, any output capacitor >= 0.47uF can be used for stability.", 7 GND (power) "Ground"
part B pins: 2 NC "No connection. May be left open or tied to ground for improved thermal performance.", 4 NC "No connection. May be left open or tied to Ground for improved thermal performance.", 5 NC "No connection. May be left open or tied to ground for improved thermal performance."

## TPS715A33DRVT
designator U?
Single Output LDO, 80 mA, Fixed 3.3 V Output, 2.5 to 24 V Input, with Low IQ, 6-pin SON (DRV), -40 to 85 degC, Green (RoHS & no Sb/Br); Manufacturer: Texas Instruments; PartNumber: TPS715A33DRVT; Accuracy(%): 4; Fixed Output Options(V): 3.3; Iout(Max)(A): 0.08; Iq(Typ)(mA): 0.003; Rating: Catalog; SubFamily: Single Channel LDO; Vdo(Typ)(mV): 670; Vin(Max)(V): 24; Vin(Min)(V): 2.5; DatasheetVersion: SBVS047F; PackageVersion: 4206925/E; PackageReference: DRV6-1600X1000TP; PackageDescription: 6-Pin Plastic Small Outline No-Lead, Body 2 x 2 mm, Pitch 0.65 mm; Supplier 1: Digi-Key; Supplier Part Number 1: 296-32533-2-ND; Supplier 2: Digi-Key; Supplier Part Number 2: 296-32533-1-ND; Supplier 3: Digi-Key; Supplier Part Number 3: 296-32533-6-ND; Supplier 4: Farnell; Supplier Part Number 4: 2075420; Supplier 5: Newark; Supplier Part Number 5: 82T3171; Supplier 6: Newark; Supplier Part Number 6: 54M7415; Supplier 7: Mouser; Supplier Part Number 7: 595-TPS715A33DRVT; Eco-Plan: Green (RoHS & no Sb/Br); Vout Adj(Max)(V): 3.3; Vout Adj(Min)(V): 3.3; Mounting Technology: Surface Mount; ComponentLink1Description: Manufacturer URL; ComponentLink1URL: http://www.ti.com/; ComponentLink2Description: Datasheet; ComponentLink2URL: http://www.ti.com/general/docs/lit/getliterature.tsp?genericPartNumber=TPS715A33&fileType=pdf; ComponentLink3Description: Package Specification; ComponentLink3URL: http://www.ti.com/litv/pdf/mpds216d; ComponentLink4Description: URL Link1; ComponentLink4URL: Samples URL:http://www.ti.com/product/tps715a33#samples
footprint TI-DRV6-1600X1000TP_V (SON, 6-Leads, Body 2x2mm, Pitch 0.65mm, Thermal Pad 1X1.6mm)
part A pins: 1 IN (power) "Unregulated input voltage.", 3 GND (power) "Ground", 6 OUT (power) "Regulated output voltage, any output capacitor >= 0.47uF can be used for stability.", 7 GND (power) "Ground"
part B pins: 2 NC "No connection. May be left open or tied to ground for improved thermal performance.", 4 NC "No connection. May be left open or tied to Ground for improved thermal performance.", 5 NC "No connection. May be left open or tied to ground for improved thermal performance."

## TPS715A33DRVTG4
designator U?
Single Output LDO, 80 mA, Fixed 3.3 V Output, 2.5 to 24 V Input, with Low IQ, 6-pin SON (DRV), -40 to 85 degC, Green (RoHS & no Sb/Br); Manufacturer: Texas Instruments; PartNumber: TPS715A33DRVTG4; Accuracy(%): 4; Fixed Output Options(V): 3.3; Iout(Max)(A): 0.08; Iq(Typ)(mA): 0.003; Rating: Catalog; SubFamily: Single Channel LDO; Vdo(Typ)(mV): 670; Vin(Max)(V): 24; Vin(Min)(V): 2.5; DatasheetVersion: SBVS047F; PackageVersion: 4206925/E; PackageReference: DRV6-1600X1000TP; PackageDescription: 6-Pin Plastic Small Outline No-Lead, Body 2 x 2 mm, Pitch 0.65 mm; Supplier 1: Digi-Key; Supplier Part Number 1: TPS715A33DRVTG4-ND; Supplier 2: Newark; Supplier Part Number 2: 60M1804; Supplier 3: Mouser; Supplier Part Number 3: 595-TPS715A33DRVTG4; Eco-Plan: Green (RoHS & no Sb/Br); Vout Adj(Max)(V): 3.3; Vout Adj(Min)(V): 3.3; Mounting Technology: Surface Mount; ComponentLink1Description: Manufacturer URL; ComponentLink1URL: http://www.ti.com/; ComponentLink2Description: Datasheet; ComponentLink2URL: http://www.ti.com/general/docs/lit/getliterature.tsp?genericPartNumber=TPS715A33&fileType=pdf; ComponentLink3Description: Package Specification; ComponentLink3URL: http://www.ti.com/litv/pdf/mpds216d; ComponentLink4Description: URL Link1; ComponentLink4URL: Samples URL:http://www.ti.com/product/tps715a33#samples
footprint TI-DRV6-1600X1000TP_V (SON, 6-Leads, Body 2x2mm, Pitch 0.65mm, Thermal Pad 1X1.6mm)
part A pins: 1 IN (power) "Unregulated input voltage.", 3 GND (power) "Ground", 6 OUT (power) "Regulated output voltage, any output capacitor >= 0.47uF can be used for stability.", 7 GND (power) "Ground"
part B pins: 2 NC "No connection. May be left open or tied to ground for improved thermal performance.", 4 NC "No connection. May be left open or tied to Ground for improved thermal performance.", 5 NC "No connection. May be left open or tied to ground for improved thermal performance."

## TPS7201QD
designator U?
Single Output LDO, 250 mA, Adjustable 1.2 to 9.75 V Output, 3 to 10 V Input, with Power Good Status Output, 8-pin SOIC (D), -40 to 125 degC, Green (RoHS & no Sb/Br); Manufacturer: Texas Instruments; PartNumber: TPS7201QD; Iout(Max)(A): 0.25; Iq(Typ)(mA): 0.18; Power Good: TRUE; SubFamily: Single Channel LDO; Vdo(Typ)(mV): 190; Vin(Max)(V): 10; Vin(Min)(V): 3; Vout Adj(Max)(V): 9.75; Vout Adj(Min)(V): 1.2; DatasheetVersion: SLVS102G; PackageVersion: 4040047-3/M; PackageReference: D8; PackageDescription: 8-Pin Plastic Small Outline, Body 4.9 x 3.9 mm, Pitch 1.27 mm; Supplier 1: Digi-Key; Supplier Part Number 1: 296-1360-5-ND; Supplier 2: Newark; Supplier Part Number 2: 52F2798; Supplier 3: Mouser; Supplier Part Number 3: 595-TPS7201QD; Eco-Plan: Green (RoHS & no Sb/Br); Mounting Technology: Surface Mount; Code_JEDEC: MS-012; ComponentLink1Description: Manufacturer URL; ComponentLink1URL: http://www.ti.com/; ComponentLink2Description: Datasheet; ComponentLink2URL: http://www.ti.com/general/docs/lit/getliterature.tsp?genericPartNumber=TPS7201&fileType=pdf; ComponentLink3Description: Package Specification; ComponentLink3URL: http://www.ti.com/litv/pdf/msoi002j
footprint TI-D8_N (SOIC, 8-Leads, Body 4.9x3.9mm, Pitch 1.27mm, IPC Medium Density)
footprint TI-D8_L (SOIC, 8-Leads, Body 4.9x3.9mm, Pitch 1.27mm, IPC High Density)
footprint TI-D8_M (SOIC, 8-Leads, Body 4.9x3.9mm, Pitch 1.27mm, IPC Low Density)
pins: 1 FB (in), 2 RESET/PG (oc), 3 GND (power), 4 ~{EN} (in), 5 IN (power), 6 IN (power), 7 OUT (power), 8 OUT (power)

## TPS7201QDG4
designator U?
Single Output LDO, 250 mA, Adjustable 1.2 to 9.75 V Output, 3 to 10 V Input, with Power Good Status Output, 8-pin SOIC (D), -40 to 125 degC, Green (RoHS & no Sb/Br); Manufacturer: Texas Instruments; PartNumber: TPS7201QDG4; Iout(Max)(A): 0.25; Iq(Typ)(mA): 0.18; Power Good: TRUE; SubFamily: Single Channel LDO; Vdo(Typ)(mV): 190; Vin(Max)(V): 10; Vin(Min)(V): 3; Vout Adj(Max)(V): 9.75; Vout Adj(Min)(V): 1.2; DatasheetVersion: SLVS102G; PackageVersion: 4040047-3/M; PackageReference: D8; PackageDescription: 8-Pin Plastic Small Outline, Body 4.9 x 3.9 mm, Pitch 1.27 mm; Supplier 1: Digi-Key; Supplier Part Number 1: TPS7201QDG4-ND; Supplier 2: Newark; Supplier Part Number 2: 67K8656; Supplier 3: Mouser; Supplier Part Number 3: 595-TPS7201QDG4; Eco-Plan: Green (RoHS & no Sb/Br); Mounting Technology: Surface Mount; Code_JEDEC: MS-012; ComponentLink1Description: Manufacturer URL; ComponentLink1URL: http://www.ti.com/; ComponentLink2Description: Datasheet; ComponentLink2URL: http://www.ti.com/general/docs/lit/getliterature.tsp?genericPartNumber=TPS7201&fileType=pdf; ComponentLink3Description: Package Specification; ComponentLink3URL: http://www.ti.com/litv/pdf/msoi002j
footprint TI-D8_N (SOIC, 8-Leads, Body 4.9x3.9mm, Pitch 1.27mm, IPC Medium Density)
footprint TI-D8_L (SOIC, 8-Leads, Body 4.9x3.9mm, Pitch 1.27mm, IPC High Density)
footprint TI-D8_M (SOIC, 8-Leads, Body 4.9x3.9mm, Pitch 1.27mm, IPC Low Density)
pins: 1 FB (in), 2 RESET/PG (oc), 3 GND (power), 4 ~{EN} (in), 5 IN (power), 6 IN (power), 7 OUT (power), 8 OUT (power)

## TPS7201QDR
designator U?
Single Output LDO, 250 mA, Adjustable 1.2 to 9.75 V Output, 3 to 10 V Input, with Power Good Status Output, 8-pin SOIC (D), -40 to 125 degC, Green (RoHS & no Sb/Br); Manufacturer: Texas Instruments; PartNumber: TPS7201QDR; Iout(Max)(A): 0.25; Iq(Typ)(mA): 0.18; Power Good: TRUE; SubFamily: Single Channel LDO; Vdo(Typ)(mV): 190; Vin(Max)(V): 10; Vin(Min)(V): 3; Vout Adj(Max)(V): 9.75; Vout Adj(Min)(V): 1.2; DatasheetVersion: SLVS102G; PackageVersion: 4040047-3/M; PackageReference: D8; PackageDescription: 8-Pin Plastic Small Outline, Body 4.9 x 3.9 mm, Pitch 1.27 mm; Supplier 1: Digi-Key; Supplier Part Number 1: 296-1360-2-ND; Supplier 2: Digi-Key; Supplier Part Number 2: 296-1360-1-ND; Supplier 3: Digi-Key; Supplier Part Number 3: 296-1360-6-ND; Supplier 4: Mouser; Supplier Part Number 4: 595-TPS7201QDR; Eco-Plan: Green (RoHS & no Sb/Br); Mounting Technology: Surface Mount; Code_JEDEC: MS-012; ComponentLink1Description: Manufacturer URL; ComponentLink1URL: http://www.ti.com/; ComponentLink2Description: Datasheet; ComponentLink2URL: http://www.ti.com/general/docs/lit/getliterature.tsp?genericPartNumber=TPS7201&fileType=pdf; ComponentLink3Description: Package Specification; ComponentLink3URL: http://www.ti.com/litv/pdf/msoi002j
footprint TI-D8_N (SOIC, 8-Leads, Body 4.9x3.9mm, Pitch 1.27mm, IPC Medium Density)
footprint TI-D8_L (SOIC, 8-Leads, Body 4.9x3.9mm, Pitch 1.27mm, IPC High Density)
footprint TI-D8_M (SOIC, 8-Leads, Body 4.9x3.9mm, Pitch 1.27mm, IPC Low Density)
pins: 1 FB (in), 2 RESET/PG (oc), 3 GND (power), 4 ~{EN} (in), 5 IN (power), 6 IN (power), 7 OUT (power), 8 OUT (power)

## TPS7201QDRG4
designator U?
Single Output LDO, 250 mA, Adjustable 1.2 to 9.75 V Output, 3 to 10 V Input, with Power Good Status Output, 8-pin SOIC (D), -40 to 125 degC, Green (RoHS & no Sb/Br); Manufacturer: Texas Instruments; PartNumber: TPS7201QDRG4; Iout(Max)(A): 0.25; Iq(Typ)(mA): 0.18; Power Good: TRUE; SubFamily: Single Channel LDO; Vdo(Typ)(mV): 190; Vin(Max)(V): 10; Vin(Min)(V): 3; Vout Adj(Max)(V): 9.75; Vout Adj(Min)(V): 1.2; DatasheetVersion: SLVS102G; PackageVersion: 4040047-3/M; PackageReference: D8; PackageDescription: 8-Pin Plastic Small Outline, Body 4.9 x 3.9 mm, Pitch 1.27 mm; Supplier 1: Digi-Key; Supplier Part Number 1: TPS7201QDRG4-ND; Supplier 2: Mouser; Supplier Part Number 2: 595-TPS7201QDRG4; Eco-Plan: Green (RoHS & no Sb/Br); Mounting Technology: Surface Mount; Code_JEDEC: MS-012; ComponentLink1Description: Manufacturer URL; ComponentLink1URL: http://www.ti.com/; ComponentLink2Description: Datasheet; ComponentLink2URL: http://www.ti.com/general/docs/lit/getliterature.tsp?genericPartNumber=TPS7201&fileType=pdf; ComponentLink3Description: Package Specification; ComponentLink3URL: http://www.ti.com/litv/pdf/msoi002j
footprint TI-D8_N (SOIC, 8-Leads, Body 4.9x3.9mm, Pitch 1.27mm, IPC Medium Density)
footprint TI-D8_L (SOIC, 8-Leads, Body 4.9x3.9mm, Pitch 1.27mm, IPC High Density)
footprint TI-D8_M (SOIC, 8-Leads, Body 4.9x3.9mm, Pitch 1.27mm, IPC Low Density)
pins: 1 FB (in), 2 RESET/PG (oc), 3 GND (power), 4 ~{EN} (in), 5 IN (power), 6 IN (power), 7 OUT (power), 8 OUT (power)

## TPS7201QP
designator U?
Single Output LDO, 250 mA, Adjustable 1.2 to 9.75 V Output, 3 to 10 V Input, with Power Good Status Output, 8-pin PDIP (P), -40 to 125 degC, Pb-Free (RoHS); Manufacturer: Texas Instruments; PartNumber: TPS7201QP; Iout(Max)(A): 0.25; Iq(Typ)(mA): 0.18; Power Good: TRUE; SubFamily: Single Channel LDO; Vdo(Typ)(mV): 190; Vin(Max)(V): 10; Vin(Min)(V): 3; Vout Adj(Max)(V): 9.75; Vout Adj(Min)(V): 1.2; DatasheetVersion: SLVS102G; PackageVersion: 4040082/E; PackageReference: P8; PackageDescription: 8-Pin Plastic In-Line, Body 9.59 x 6.35 mm, 2.54 mm Pitch; Supplier 1: Digi-Key; Supplier Part Number 1: 296-8052-5-ND; Supplier 2: Farnell; Supplier Part Number 2: 1503467; Supplier 3: Newark; Supplier Part Number 3: 52F3987; Supplier 4: Mouser; Supplier Part Number 4: 595-TPS7201QP; Eco-Plan: Pb-Free (RoHS); Mounting Technology: Through Hole; Code_JEDEC: MS-001; ComponentLink1Description: Manufacturer URL; ComponentLink1URL: http://www.ti.com/; ComponentLink2Description: Datasheet; ComponentLink2URL: http://www.ti.com/general/docs/lit/getliterature.tsp?genericPartNumber=TPS7201&fileType=pdf; ComponentLink3Description: Package Specification; ComponentLink3URL: http://www.ti.com/litv/pdf/mpdi001b
footprint TI-P8 (DIP, 8-Leads, Body 9.59x6.35mm, Pitch 2.54mm)
pins: 1 FB (in), 2 RESET/PG (oc), 3 GND (power), 4 ~{EN} (in), 5 IN (power), 6 IN (power), 7 OUT (power), 8 OUT (power)

## TPS7201QPE4
designator U?
Single Output LDO, 250 mA, Adjustable 1.2 to 9.75 V Output, 3 to 10 V Input, with Power Good Status Output, 8-pin PDIP (P), -40 to 125 degC, Pb-Free (RoHS); Manufacturer: Texas Instruments; PartNumber: TPS7201QPE4; Iout(Max)(A): 0.25; Iq(Typ)(mA): 0.18; Power Good: TRUE; SubFamily: Single Channel LDO; Vdo(Typ)(mV): 190; Vin(Max)(V): 10; Vin(Min)(V): 3; Vout Adj(Max)(V): 9.75; Vout Adj(Min)(V): 1.2; DatasheetVersion: SLVS102G; PackageVersion: 4040082/E; PackageReference: P8; PackageDescription: 8-Pin Plastic In-Line, Body 9.59 x 6.35 mm, 2.54 mm Pitch; Supplier 1: Digi-Key; Supplier Part Number 1: TPS7201QPE4-ND; Supplier 2: Mouser; Supplier Part Number 2: 595-TPS7201QPE4; Eco-Plan: Pb-Free (RoHS); Mounting Technology: Through Hole; Code_JEDEC: MS-001; ComponentLink1Description: Manufacturer URL; ComponentLink1URL: http://www.ti.com/; ComponentLink2Description: Datasheet; ComponentLink2URL: http://www.ti.com/general/docs/lit/getliterature.tsp?genericPartNumber=TPS7201&fileType=pdf; ComponentLink3Description: Package Specification; ComponentLink3URL: http://www.ti.com/litv/pdf/mpdi001b
footprint TI-P8 (DIP, 8-Leads, Body 9.59x6.35mm, Pitch 2.54mm)
pins: 1 FB (in), 2 RESET/PG (oc), 3 GND (power), 4 ~{EN} (in), 5 IN (power), 6 IN (power), 7 OUT (power), 8 OUT (power)